# EAGLE library part K-30_CO2-SENSOR (library Senseair CO2 Engine K30)
CO2 Engine® K30 is a flexible product with two analog outputs and two digital outputs that can be configured with SADK hardware and UIP or other custom software to meet your requirement. Datasheet <https://rmtplusstoragesenseair.blob.core.windows.net/docs/publicerat/PSH131.pdf>
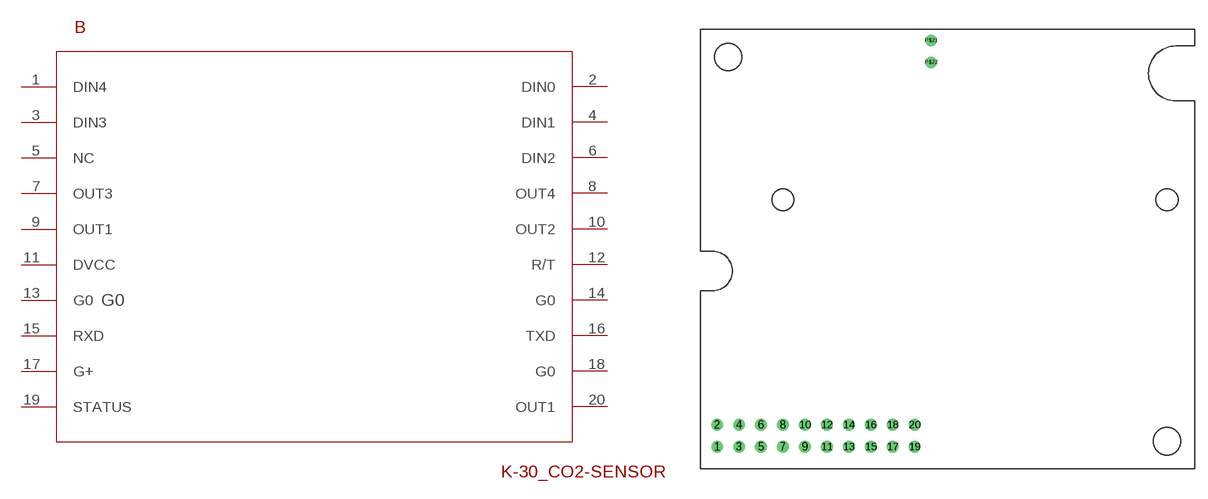
[diagram p0: symbol with the pads of K-30_CO2-SENSOR; footprint K-30_CO2-SENSOR]

Designator prefix B

## K-30_CO2-SENSOR  [K-30_CO2-SENSOR]
1  DIN4
2  DIN0
3  DIN3
4  DIN1
5  NC
6  DIN2
7  OUT3
8  OUT4
9  OUT1
10  OUT2
11  DVCC
12  R/T
13  G0
14  G0
15  RXD
16  TXD
17  G+
18  G0
19  STATUS
20  OUT1

## Footprint K-30_CO2-SENSOR (pad centres in mm)
drill 0.85: 1 1.905,2.54; 2 1.905,5.08; 3 4.445,2.54; 4 4.445,5.08; 5 6.985,2.54; 6 6.985,5.08; 7 9.525,2.54; 8 9.525,5.08; 9 12.065,2.54; 10 12.065,5.08; 11 14.605,2.54; 12 14.605,5.08; 13 17.145,2.54; 14 17.145,5.08; 15 19.685,2.54; 16 19.685,5.08; 17 22.225,2.54; 18 22.225,5.08; 19 24.765,2.54; 20 24.765,5.08; P$21 26.67,49.53; P$22 26.67,46.99
hole 3.175 at 3.175,47.625
hole 3.175 at 53.975,3.175